# Altium schematic symbol library LTC4416.Schlib: 1 symbol
Pins are listed as number, name and electrical type; pins without a type are passive.

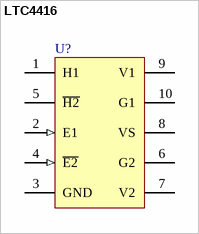
[diagram p0: symbol LTC4416]

## LTC4416
designator U?
pins: 1 H1 (oc), 2 E1 (in), 3 GND (power), 4 ~{E2} (in), 5 ~{H2} (oc), 6 G2, 7 V2, 8 VS, 9 V1, 10 G1